# EAGLE library part M06_IMU (library custom_parts)
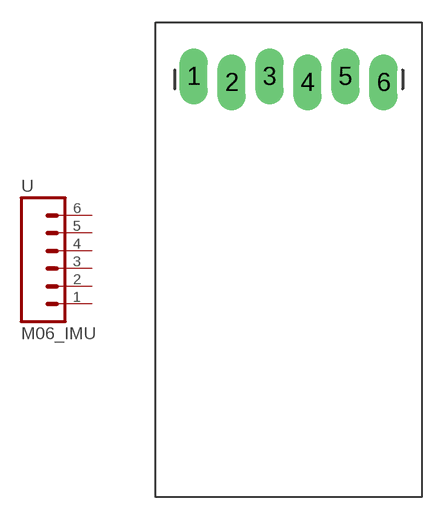
[diagram p0: symbol with the pads of 1X06_LONGPADS; footprint 1X06_LONGPADS]

Designator prefix -

## M06_IMU  [1X06_LONGPADS]
1  1  pas
2  2  pas
3  3  pas
4  4  pas
5  5  pas
6  6  pas

## Footprint 1X06_LONGPADS (pad centres in mm)
drill 1.118 pad 1.88 long: 1 0,0.203; 2 2.54,-0.203; 3 5.08,0.203; 4 7.62,-0.203; 5 10.16,0.203; 6 12.7,-0.203